# Altium footprint library ITU_Rocket_Main_Board.PcbLib: 34 footprints (part 3 of 3)
Each footprint in its own frame and in the unit in brackets; x right, y up, seen from the top. Pads: shape width x height; smd on the part's side, far side on the other; paste and mask are expansions set on the pad; w line width, h text height; cw(c..) or ccw(c..) is an arc to the next point about the centre after c.
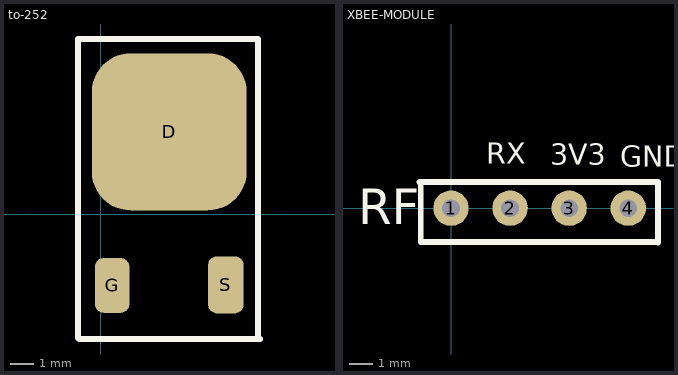
[diagram p2: the footprints below, top view; thin cyan lines are the x and y axes]

## to-252 [mm]
pads (3):
  rrect50% 6.5x6.6 smd: D(2.875,3.45)
  rrect50% 1.45x2.3 smd: G(0.475,-3)
  rrect50% 1.5x2.4 smd: S(5.25,-2.975)
Top Overlay:
  lines w0.254: -0.95,-5.2 -0.95,7.35 6.55,7.35 ; -0.9,-5.25 6.675,-5.25 ; 6.6,-5.175 6.6,7.35
Mechanical 1:
  lines w0.254: -0.95,-5.2 -0.9,-5.25 ; 6.6,-5.175 6.675,-5.25
3D body: height 2.43, standoff 0, extent -0.329,-3.683 6.171,6.457

## XBEE-MODULE [mil]
pads (4):
  round 60 hole 30: 1(0,0) 2(100,0) 3(200,0) 4(300,0)
Top Overlay:
  lines w10: -53.15,44.29 350.39,44.29 ; -51.18,42.32 -51.18,-57.09 349.41,-57.09 350.39,-58.07 350.39,44.29 ; 350.39,44.29 350.39,44.29
  text "RX" at 60.04,62.99 h60
  text "3V3" at 168.31,62.01 h60
  text "GND" at 286.42,58.07 h60
  text "RF" at -157.48,-27.56 h60
3D body: height 373.85, standoff -125.98, extent -49.99,-49.99 350.01,50.01